# Altium footprint library Switch.PcbLib: 1 footprints
Each footprint in its own frame and in the unit in brackets; x right, y up, seen from the top. Pads: shape width x height; smd on the part's side, far side on the other; paste and mask are expansions set on the pad; w line width, h text height; cw(c..) or ccw(c..) is an arc to the next point about the centre after c.
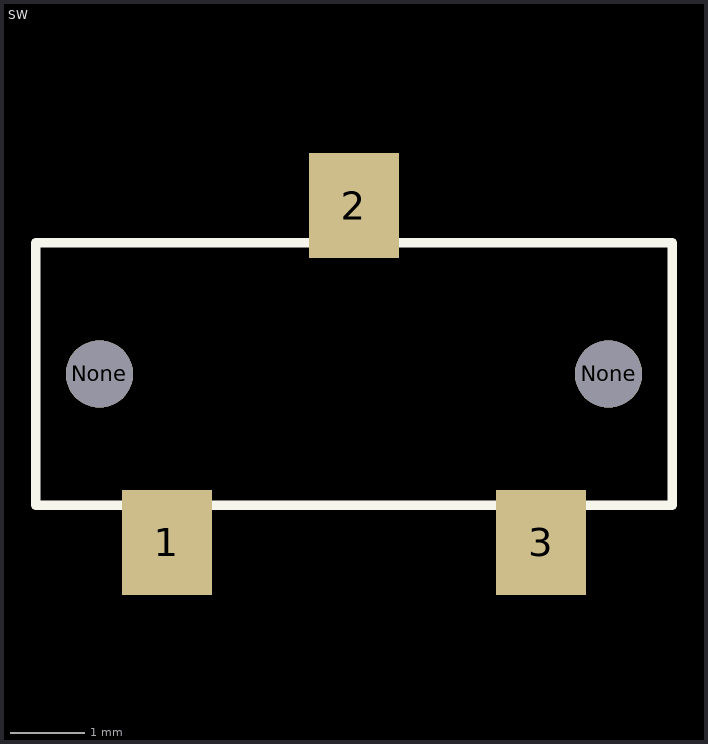
[diagram p0: the footprint, top view; thin cyan lines are the x and y axes]

## SW [mm]
pads (5):
  rect 1.2x1.4 smd: 1(9.311,9.18) 2(11.811,13.68) 3(14.311,9.18)
  round 0.9 hole 0.9 unplated: None(8.411,11.43) None(15.211,11.43)
Top Overlay:
  lines w0.127: 7.561,9.68 16.061,9.68 16.061,13.18 7.561,13.18 7.561,9.68